# Altium footprint library PcbLib1.PcbLib: 19 footprints (part 1 of 2)
Each footprint in its own frame and in the unit in brackets; x right, y up, seen from the top. Pads: shape width x height; smd on the part's side, far side on the other; paste and mask are expansions set on the pad; w line width, h text height; cw(c..) or ccw(c..) is an arc to the next point about the centre after c.
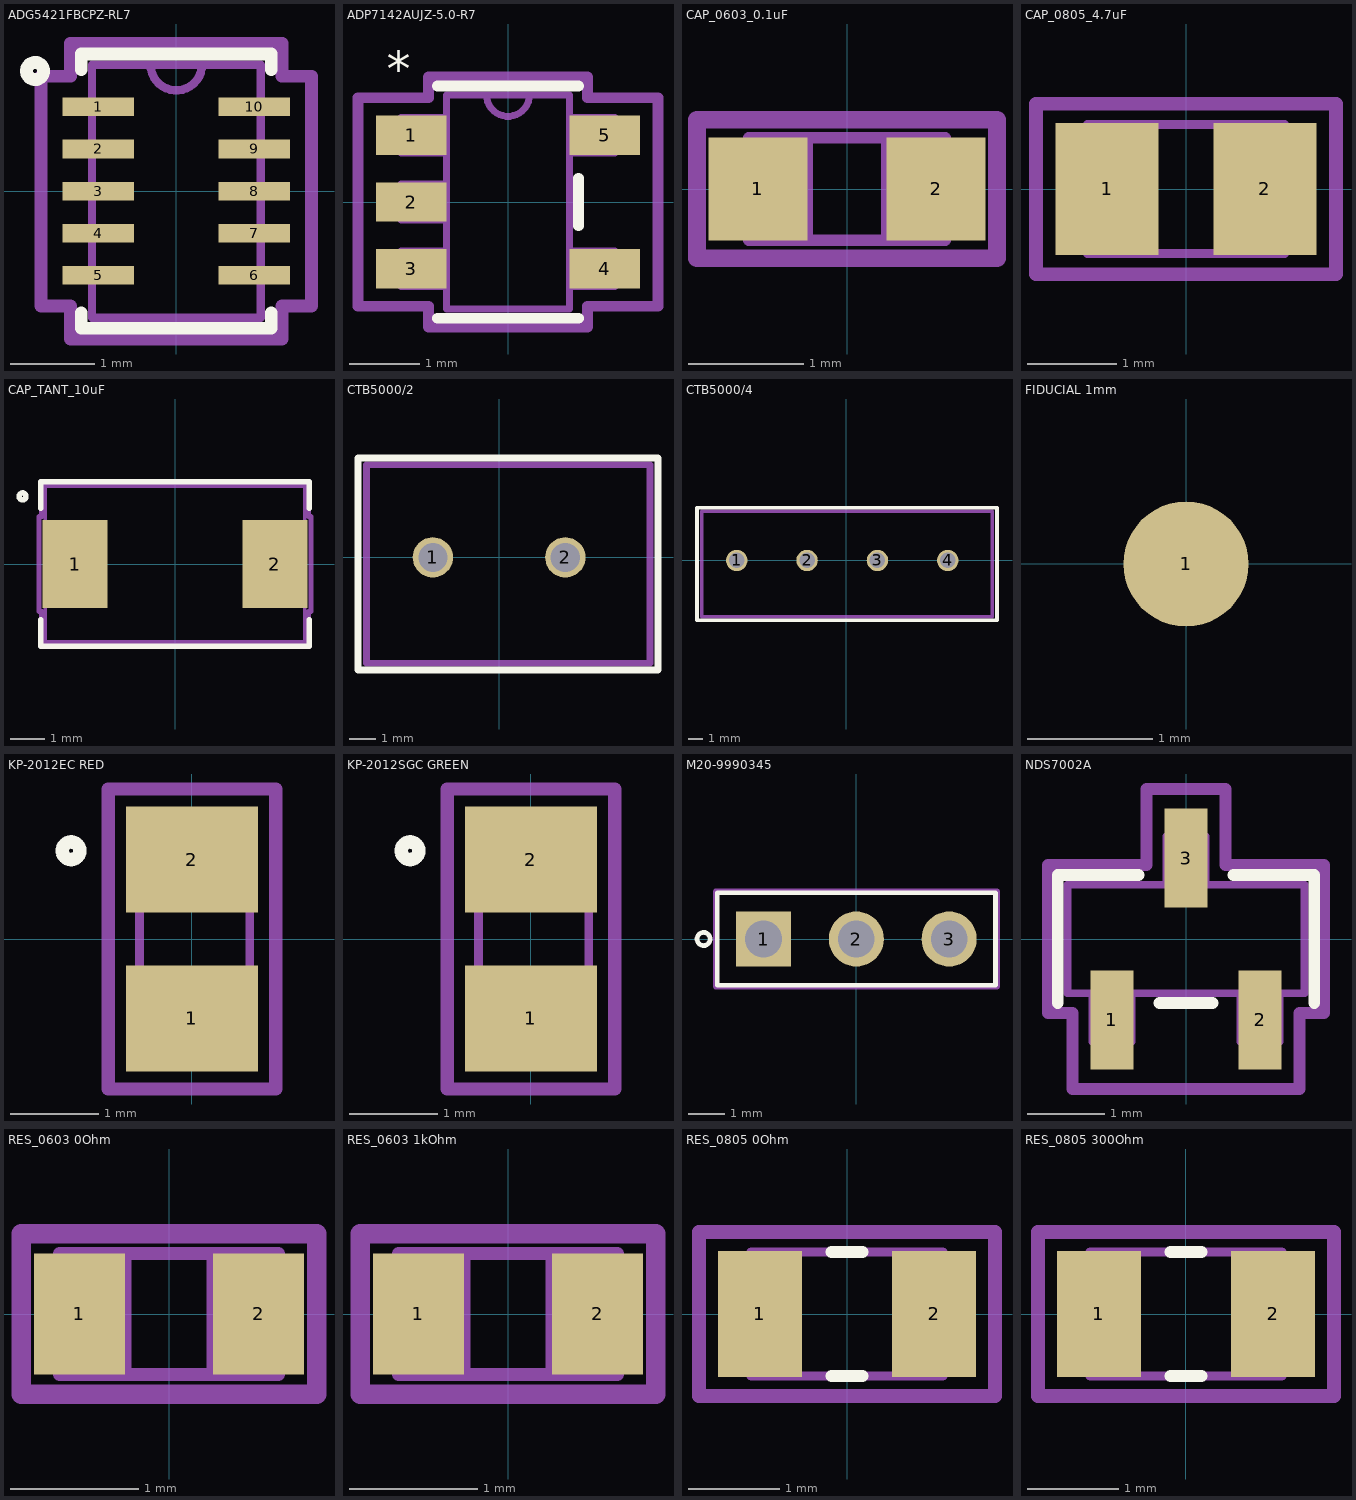
[diagram p0: the footprints below, top view; thin cyan lines are the x and y axes]

## ADG5421FBCPZ-RL7 [mm]
pads (10):
  rect 0.85x0.22 smd paste+0 mask+0: 1(-0.925,1) 2(-0.925,0.5) 3(-0.925,0) 4(-0.925,-0.5) 5(-0.925,-1) 6(0.925,-1) 7(0.925,-0.5) 8(0.925,0) 9(0.925,0.5) 10(0.925,1)
Top Overlay:
  circle w0.152: c-1.675,1.425 r0.102
  lines w0.152: -1.127,-1.443 -1.127,-1.627 1.127,-1.627 1.127,-1.443 ; -1.127,1.443 -1.127,1.627 1.127,1.627 1.127,1.443
Top Assembly:
  lines w0.1: -0.305,1.5 ccw(c0,1.5) 0.305,1.5 ; -1,-1.5 -1,1.5 1,1.5 1,-1.5 -1,-1.5
Top Courtyard:
  lines w0.152: -1.604,-1.364 -1.604,1.364 -1.254,1.364 -1.254,1.754 1.254,1.754 1.254,1.364 1.604,1.364 1.604,-1.364 1.254,-1.364 1.254,-1.754 -1.254,-1.754 -1.254,-1.364 -1.604,-1.364
3D body "CP-10-16_ADI.step": height 0.77, standoff 0, extent -1.05,-1.5 1.05,1.5

## ADP7142AUJZ-5.0-R7 [mil]
pads (5):
  rect 39.5x22 smd paste+0 mask+0: 1(-54.25,37.4) 2(-54.25,0) 3(-54.25,-37.4) 4(54.25,-37.4) 5(54.25,37.4)
Top Overlay:
  lines w6: -39.5,-65 39.5,-65 ; -39.5,65 39.5,65 ; 39.5,-13.3 39.5,13.3
  text "*" at -67.91,64.96 h19.68
Top Assembly:
  lines w3.94: -12,60 ccw(c0,60) 12,60 ; -60,-47.4 -60,-27.4 -34.5,-27.4 -34.5,-47.4 -60,-47.4 ; -60,-10 -60,10 -34.5,10 -34.5,-10 -60,-10 ; -60,27.4 -60,47.4 -34.5,47.4 -34.5,27.4 -60,27.4 ; -34.5,-60 34.5,-60 34.5,60 -34.5,60 -34.5,-60 ; 34.5,-47.4 34.5,-27.4 60,-27.4 60,-47.4 34.5,-47.4 ; 34.5,27.4 34.5,47.4 60,47.4 60,27.4 34.5,27.4
  text "*" at -27.56,23.62 h27.56
Top Courtyard:
  lines w5.98: -84,-58.4 -84,58.4 -44.5,58.4 -44.5,70 44.5,70 44.5,58.4 84,58.4 84,-58.4 44.5,-58.4 44.5,-70 -44.5,-70 -44.5,-58.4 -84,-58.4
3D body "UJ-5_ADI.step": height 39.09, standoff 0, extent -60,-60 60,60

## CAP_0603_0.1uF [mil]
pads (2):
  rect 33.78x35 smd paste+0 mask+0: 1(-30.39,0) 2(30.39,0)
Top Assembly:
  lines w3.94: -33.5,-17.5 -13.5,-17.5 -13.5,17.5 -33.5,17.5 ; -33.5,-17.5 -33.5,17.5 ; -33.5,-17.5 -33.5,17.5 ; -33.5,-17.5 33.5,-17.5 ; -33.5,17.5 33.5,17.5 ; 33.5,-17.5 13.5,-17.5 13.5,17.5 33.5,17.5 ; 33.5,-17.5 33.5,17.5 ; 33.5,-17.5 33.5,17.5
Top Courtyard:
  lines w5.98: -51.18,-23.62 -51.18,23.62 51.18,23.62 51.18,-23.62 -51.18,-23.62
3D body "CAP_GRM_188_MUR.step": height 35, standoff 0, extent -33.5,-17.48 33.51,17.48

## CAP_0805_4.7uF [mm]
pads (2):
  rect 1.15x1.47 smd: 1(-0.88,0) 2(0.88,0)
Top Assembly:
  lines w0.1: -1.1,-0.72 1.1,-0.72 1.1,0.72 -1.1,0.72 -1.1,-0.72
Top Courtyard:
  lines w0.152: -1.675,-0.95 -1.675,0.95 1.675,0.95 1.675,-0.95 -1.675,-0.95
3D body "step_temp.STEP": height 1.45, standoff 0, extent -1,-0.625 1,0.625

## CAP_TANT_10uF [mil]
pads (2):
  rect 74x100 smd paste+0 mask+0: 1(-113.5,0) 2(113.5,0)
Top Overlay:
  circle w6: c-173.23,76.77 r4
  lines w6: -152.5,-62.95 -152.5,-93.5 152.5,-93.5 152.5,-62.95 ; -152.5,62.95 -152.5,93.5 152.5,93.5 152.5,62.95
Top Assembly:
  lines w3.94: -147.5,-88.5 -147.5,88.5 147.5,88.5 147.5,-88.5 -147.5,-88.5
Top Courtyard:
  lines w6: -154.5,-54 -151.5,-54 -151.5,-92.5 151.5,-92.5 151.5,-54 154.5,-54 154.5,54 151.5,54 151.5,92.5 -151.5,92.5 -151.5,54 -154.5,54 -154.5,-54
3D body "TAJD_AVX.step": height 124.02, standoff 0, extent -147.48,-88.5 147.48,88.51

## CTB5000/2 [mil]
pads (2):
  round 60 hole 43.31: 1(-98.43,0) 2(98.43,0)
Top Overlay:
  lines w10: -209.65,-167.32 -209.65,147.64 236.22,147.64 236.22,-167.32 -209.65,-167.32
Top Assembly:
  lines w10: -196.85,-157.48 224.41,-157.48 224.41,137.8 -196.85,137.8 -196.85,-157.48
Top Courtyard:
  lines w5.98: -209.65,-167.32 236.22,-167.32 236.22,147.64 -209.65,147.64 -209.65,-167.32
3D body "lumberg_krm_02.x_t": height 394.2, standoff -156.98, extent -196.85,-157.48 224.41,137.8

## CTB5000/4 [mil]
pads (4):
  round 60 hole 43.31: 1(-307.09,0) 2(-110.24,0) 3(86.61,0) 4(283.46,0)
Top Overlay:
  lines w10: -418.31,-167.32 421.26,-167.32 421.26,147.64 -418.31,147.64 -418.31,-167.32
Top Assembly:
  lines w10: -405.51,-157.48 -405.51,137.8 408.46,137.8 408.46,-157.48 -405.51,-157.48
Top Courtyard:
  lines w5.98: -418.31,-167.32 -418.31,147.64 421.26,147.64 421.26,-167.32 -418.31,-167.32
3D body "lumberg_krm_02.x_t": height 394.2, standoff -156.98, extent -12.8,-157.48 408.46,137.8
3D body "lumberg_krm_02.x_t": height 394.2, standoff -156.98, extent -405.51,-157.48 15.74,137.8

## FIDUCIAL 1mm [mm]
pads (1):
  round 1 smd paste-1 mask+0.5: 1(0,0)
Multi-Layer:
  pour cut-out: 0,-1.2 -0.118,-1.2 -0.35,-1.154 -0.568,-1.063 -0.765,-0.932 -0.932,-0.765 -1.063,-0.568 -1.154,-0.35 -1.2,-0.118 -1.2,0 -1.2,0.118 -1.154,0.35 -1.063,0.568 -0.932,0.765 -0.765,0.932 -0.568,1.063 -0.35,1.154 -0.118,1.2 0,1.2 0.118,1.2 0.35,1.154 0.568,1.063 0.765,0.932 0.932,0.765 1.063,0.568 1.154,0.35 1.2,0.118 1.2,0 1.2,-0.118 1.154,-0.35 1.063,-0.568 0.932,-0.765 0.765,-0.932 0.568,-1.063 0.35,-1.154 0.118,-1.2

## KP-2012EC RED [mm]
pads (2):
  rect 1.5x1.2 smd: 1(0,-0.9) 2(0,0.9)
Top Overlay:
  circle w0.152: c-1.37,1 r0.1
Top Assembly:
  circle w0.1: c-1.37,1 r0.1
  lines w0.1: -0.595,-1 -0.595,1 0.655,1 0.655,-1 -0.595,-1
Top Courtyard:
  lines w0.152: -0.95,-1.7 -0.95,1.7 0.95,1.7 0.95,-1.7 -0.95,-1.7
3D body "KP-2012SGC.STEP": height 1.11, standoff 0.01, extent -0.595,-1 0.655,1

## KP-2012SGC GREEN [mm]
pads (2):
  rect 1.5x1.2 smd: 1(0,-0.9) 2(0,0.9)
Top Overlay:
  circle w0.152: c-1.37,1 r0.1
Top Assembly:
  circle w0.1: c-1.37,1 r0.1
  lines w0.1: -0.595,-1 0.655,-1 0.655,1 -0.595,1 -0.595,-1
Top Courtyard:
  lines w0.152: -0.95,-1.7 -0.95,1.7 0.95,1.7 0.95,-1.7 -0.95,-1.7
3D body "KP-2012SGC.STEP": height 1.11, standoff 0.01, extent -0.595,-1 0.655,1

## M20-9990345 [mm]
pads (3):
  rect 1.508x1.508 hole 1: 1(-2.54,0)
  round 1.508 hole 1: 2(0,0) 3(2.54,0)
Top Overlay:
  circle w0.127: c-4.18,0 r0.18
  lines w0.127: -3.81,-1.27 -3.81,1.27 3.81,1.27 3.81,-1.27 -3.81,-1.27
Top Assembly:
  circle w0.1: c-4.18,0 r0.18
  lines w0.1: -3.81,-1.27 3.81,-1.27 3.81,1.27 -3.81,1.27 -3.81,-1.27
Top Courtyard:
  lines w0.152: -3.85,-1.3 -3.85,1.3 3.85,1.3 3.85,-1.3 -3.85,-1.3
3D body "M20-9990345--3DModel-STEP-56544.STEP": height 8.65, standoff -2.99, extent -3.81,-1.27 3.81,1.27

## NDS7002A [mil]
pads (3):
  rect 22x50 smd paste+0 mask+0: 1(-37.5,-41) 2(37.5,-41) 3(0,41)
Top Overlay:
  lines w6: -65,-32.5 -65,32.5 -24.1,32.5 ; -13.4,-32.5 13.4,-32.5 ; 24.1,32.5 65,32.5 65,-32.5
Top Assembly:
  lines w3.94: -60,-27.5 -60,27.5 60,27.5 60,-27.5 -60,-27.5 ; -47.5,-52 -27.5,-52 -27.5,-27.5 -47.5,-27.5 -47.5,-52 ; -10,27.5 -10,52 10,52 10,27.5 -10,27.5 ; 27.5,-52 47.5,-52 47.5,-27.5 27.5,-27.5 27.5,-52
Top Courtyard:
  lines w6: -70,-37.5 -57.5,-37.5 -57.5,-76 57.5,-76 57.5,-37.5 70,-37.5 70,37.5 20,37.5 20,76 -20,76 -20,37.5 -70,37.5 -70,-37.5
3D body "SOT-23_3L_ONS.step": height 44.09, standoff 0, extent -60,-52 60,52.01

## RES_0603 0Ohm [mil]
pads (2):
  rect 27.87x37 smd paste+0 mask+0: 1(-27.44,0) 2(27.44,0)
Top Assembly:
  lines w3.94: -33.5,-18.5 33.5,-18.5 ; -33.5,-18.5 -33.5,18.5 ; -33.5,-18.5 -33.5,18.5 ; -33.5,-18.5 -13.5,-18.5 -13.5,18.5 -33.5,18.5 ; -33.5,18.5 33.5,18.5 ; 33.5,-18.5 33.5,18.5 ; 33.5,-18.5 33.5,18.5 ; 33.5,-18.5 13.5,-18.5 13.5,18.5 33.5,18.5
Top Courtyard:
  lines w6: -45.28,-24.61 45.28,-24.61 45.28,24.61 -45.28,24.61 -45.28,-24.61
3D body "RES_MC0063W0603110K_MTC.step": height 22.01, standoff 0, extent -33.5,-18.5 33.51,18.51

## RES_0603 1kOhm [mil]
pads (2):
  rect 27.87x37 smd paste+0 mask+0: 1(-27.44,0) 2(27.44,0)
Top Assembly:
  lines w3.94: -33.5,-18.5 -13.5,-18.5 -13.5,18.5 -33.5,18.5 ; -33.5,-18.5 -33.5,18.5 ; -33.5,-18.5 -33.5,18.5 ; -33.5,-18.5 33.5,-18.5 ; -33.5,18.5 33.5,18.5 ; 33.5,-18.5 13.5,-18.5 13.5,18.5 33.5,18.5 ; 33.5,-18.5 33.5,18.5 ; 33.5,-18.5 33.5,18.5
Top Courtyard:
  lines w6: -45.28,-24.61 45.28,-24.61 45.28,24.61 -45.28,24.61 -45.28,-24.61
3D body "RES_MC0063W0603110K_MTC.step": height 22.01, standoff 0, extent -33.5,-18.5 33.51,18.51

## RES_0805 0Ohm [mm]
pads (2):
  rect 0.92x1.38 smd: 1(-0.955,0) 2(0.955,0)
Top Overlay:
  lines w0.127: -0.17,-0.68 0.17,-0.68 ; -0.17,0.68 0.17,0.68
Top Assembly:
  lines w0.1: -1.05,-0.68 1.05,-0.68 1.05,0.68 -1.05,0.68 -1.05,-0.68
Top Courtyard:
  lines w0.152: -1.625,-0.9 -1.625,0.9 1.625,0.9 1.625,-0.9 -1.625,-0.9
3D body "step_temp.STEP": height 0.7, standoff 0, extent -1,-0.625 1,0.625

## RES_0805 300Ohm [mm]
pads (2):
  rect 0.92x1.38 smd: 1(-0.955,0) 2(0.955,0)
Top Overlay:
  lines w0.127: -0.17,-0.68 0.17,-0.68 ; -0.17,0.68 0.17,0.68
Top Assembly:
  lines w0.1: -1.05,-0.68 1.05,-0.68 1.05,0.68 -1.05,0.68 -1.05,-0.68
Top Courtyard:
  lines w0.152: -1.625,-0.9 -1.625,0.9 1.625,0.9 1.625,-0.9 -1.625,-0.9
3D body "step_temp.STEP": height 0.7, standoff 0, extent -1,-0.625 1,0.625